# EAGLE library part IS61LV12824-*B (library memory-issi-asynsram)
128k x 24 high- speed CMOS static RAM 8ns and 10ns access time 3.3V power supply
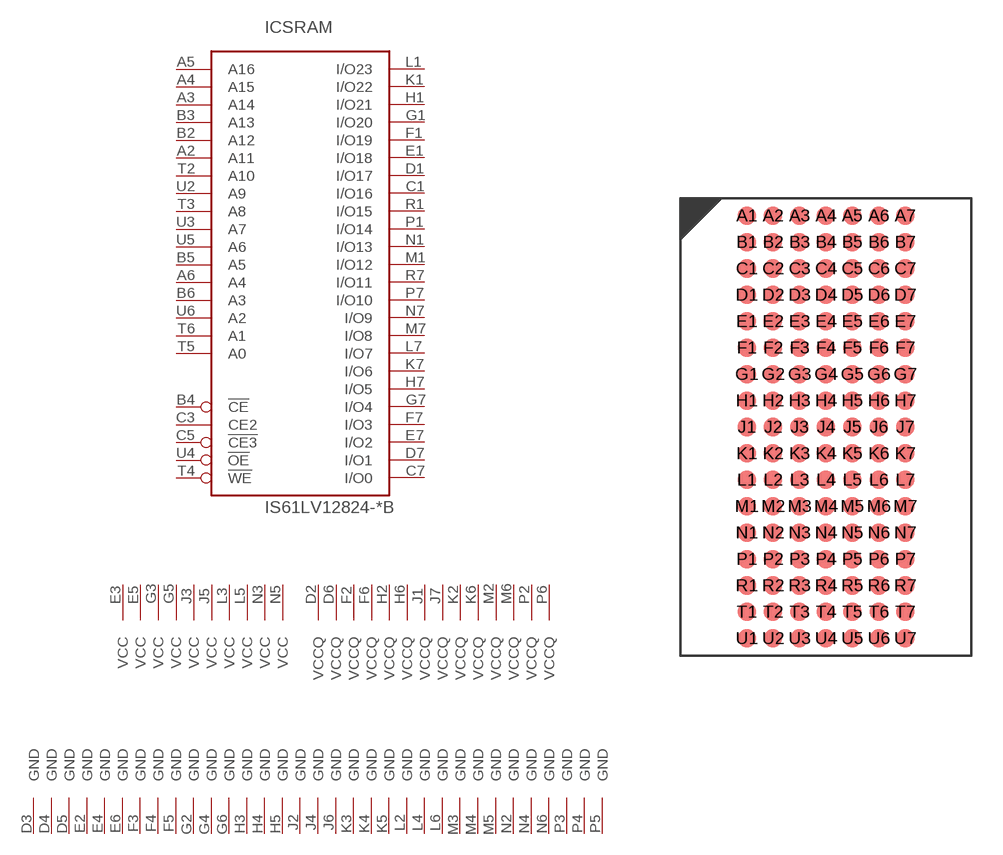
[diagram p158: symbol with the pads of PBGA119_14X22MM; footprint PBGA119_14X22MM]

Designator prefix IC; gates SRAM=128KX24_TYP1 PWR=PWR_VCC10_VCCQ14_GND33

## IS61LV12824-10B, IS61LV12824-8B  [PBGA119_14X22MM]
A2  SRAM:A11  in
A3  SRAM:A14  in
A4  SRAM:A15  in
A5  SRAM:A16  in
A6  SRAM:A4  in
B2  SRAM:A12  in
B3  SRAM:A13  in
B4  SRAM:!CE  in
B5  SRAM:A5  in
B6  SRAM:A3  in
C1  SRAM:I/O16  hiz
C3  SRAM:CE2  in
C5  SRAM:!CE3  in
C7  SRAM:I/O0  hiz
D1  SRAM:I/O17  hiz
D2  PWR:VCCQ  pwr
D3  PWR:GND  pwr
D4  PWR:GND  pwr
D5  PWR:GND  pwr
D6  PWR:VCCQ  pwr
D7  SRAM:I/O1  hiz
E1  SRAM:I/O18  hiz
E2  PWR:GND  pwr
E3  PWR:VCC  pwr
E4  PWR:GND  pwr
E5  PWR:VCC  pwr
E6  PWR:GND  pwr
E7  SRAM:I/O2  hiz
F1  SRAM:I/O19  hiz
F2  PWR:VCCQ  pwr
F3  PWR:GND  pwr
F4  PWR:GND  pwr
F5  PWR:GND  pwr
F6  PWR:VCCQ  pwr
F7  SRAM:I/O3  hiz
G1  SRAM:I/O20  hiz
G2  PWR:GND  pwr
G3  PWR:VCC  pwr
G4  PWR:GND  pwr
G5  PWR:VCC  pwr
G6  PWR:GND  pwr
G7  SRAM:I/O4  hiz
H1  SRAM:I/O21  hiz
H2  PWR:VCCQ  pwr
H3  PWR:GND  pwr
H4  PWR:GND  pwr
H5  PWR:GND  pwr
H6  PWR:VCCQ  pwr
H7  SRAM:I/O5  hiz
J1  PWR:VCCQ  pwr
J2  PWR:GND  pwr
J3  PWR:VCC  pwr
J4  PWR:GND  pwr
J5  PWR:VCC  pwr
J6  PWR:GND  pwr
J7  PWR:VCCQ  pwr
K1  SRAM:I/O22  hiz
K2  PWR:VCCQ  pwr
K3  PWR:GND  pwr
K4  PWR:GND  pwr
K5  PWR:GND  pwr
K6  PWR:VCCQ  pwr
K7  SRAM:I/O6  hiz
L1  SRAM:I/O23  hiz
L2  PWR:GND  pwr
L3  PWR:VCC  pwr
L4  PWR:GND  pwr
L5  PWR:VCC  pwr
L6  PWR:GND  pwr
L7  SRAM:I/O7  hiz
M1  SRAM:I/O12  hiz
M2  PWR:VCCQ  pwr
M3  PWR:GND  pwr
M4  PWR:GND  pwr
M5  PWR:GND  pwr
M6  PWR:VCCQ  pwr
M7  SRAM:I/O8  hiz
N1  SRAM:I/O13  hiz
N2  PWR:GND  pwr
N3  PWR:VCC  pwr
N4  PWR:GND  pwr
N5  PWR:VCC  pwr
N6  PWR:GND  pwr
N7  SRAM:I/O9  hiz
P1  SRAM:I/O14  hiz
P2  PWR:VCCQ  pwr
P3  PWR:GND  pwr
P4  PWR:GND  pwr
P5  PWR:GND  pwr
P6  PWR:VCCQ  pwr
P7  SRAM:I/O10  hiz
R1  SRAM:I/O15  hiz
R7  SRAM:I/O11  hiz
T2  SRAM:A10  in
T3  SRAM:A8  in
T4  SRAM:!WE  in
T5  SRAM:A0  in
T6  SRAM:A1  in
U2  SRAM:A9  in
U3  SRAM:A7  in
U4  SRAM:!OE  in
U5  SRAM:A6  in
U6  SRAM:A2  in

## Footprint PBGA119_14X22MM (pad centres in mm)
PBGA119 14 x 22 mm, 7 x 17-pin 1.27 mm pitch plastic ball grid array package
smd 0.9 x 0.9: A1 -3.81,10.16; A2 -2.54,10.16; A3 -1.27,10.16; A4 0,10.16; A5 1.27,10.16; A6 2.54,10.16; A7 3.81,10.16; B1 -3.81,8.89; B2 -2.54,8.89; B3 -1.27,8.89; B4 0,8.89; B5 1.27,8.89; B6 2.54,8.89; B7 3.81,8.89; C1 -3.81,7.62; C2 -2.54,7.62; C3 -1.27,7.62; C4 0,7.62; C5 1.27,7.62; C6 2.54,7.62; C7 3.81,7.62; D1 -3.81,6.35; D2 -2.54,6.35; D3 -1.27,6.35; D4 0,6.35; D5 1.27,6.35; D6 2.54,6.35; D7 3.81,6.35; E1 -3.81,5.08; E2 -2.54,5.08; E3 -1.27,5.08; E4 0,5.08; E5 1.27,5.08; E6 2.54,5.08; E7 3.81,5.08; F1 -3.81,3.81; F2 -2.54,3.81; F3 -1.27,3.81; F4 0,3.81; F5 1.27,3.81; F6 2.54,3.81; F7 3.81,3.81; G1 -3.81,2.54; G2 -2.54,2.54; G3 -1.27,2.54; G4 0,2.54; G5 1.27,2.54; G6 2.54,2.54; G7 3.81,2.54; H1 -3.81,1.27; H2 -2.54,1.27; H3 -1.27,1.27; H4 0,1.27; H5 1.27,1.27; H6 2.54,1.27; H7 3.81,1.27; J1 -3.81,0; J2 -2.54,0; J3 -1.27,0; J4 0,0; J5 1.27,0; J6 2.54,0; J7 3.81,0; K1 -3.81,-1.27; K2 -2.54,-1.27; K3 -1.27,-1.27; K4 0,-1.27; K5 1.27,-1.27; K6 2.54,-1.27; K7 3.81,-1.27; L1 -3.81,-2.54; L2 -2.54,-2.54; L3 -1.27,-2.54; L4 0,-2.54; L5 1.27,-2.54; L6 2.54,-2.54; L7 3.81,-2.54; M1 -3.81,-3.81; M2 -2.54,-3.81; M3 -1.27,-3.81; M4 0,-3.81; M5 1.27,-3.81; M6 2.54,-3.81; M7 3.81,-3.81; N1 -3.81,-5.08; N2 -2.54,-5.08; N3 -1.27,-5.08; N4 0,-5.08; N5 1.27,-5.08; N6 2.54,-5.08; N7 3.81,-5.08; P1 -3.81,-6.35; P2 -2.54,-6.35; P3 -1.27,-6.35; P4 0,-6.35; P5 1.27,-6.35; P6 2.54,-6.35; P7 3.81,-6.35; R1 -3.81,-7.62; R2 -2.54,-7.62; R3 -1.27,-7.62; R4 0,-7.62; R5 1.27,-7.62; R6 2.54,-7.62; R7 3.81,-7.62; T1 -3.81,-8.89; T2 -2.54,-8.89; T3 -1.27,-8.89; T4 0,-8.89; T5 1.27,-8.89; T6 2.54,-8.89; T7 3.81,-8.89; U1 -3.81,-10.16; U2 -2.54,-10.16; U3 -1.27,-10.16; U4 0,-10.16; U5 1.27,-10.16; U6 2.54,-10.16; U7 3.81,-10.16